# Altium schematic symbol library spacemonochrome-WR_TBL.SchLib: 1696 symbols (part 4 of 28)
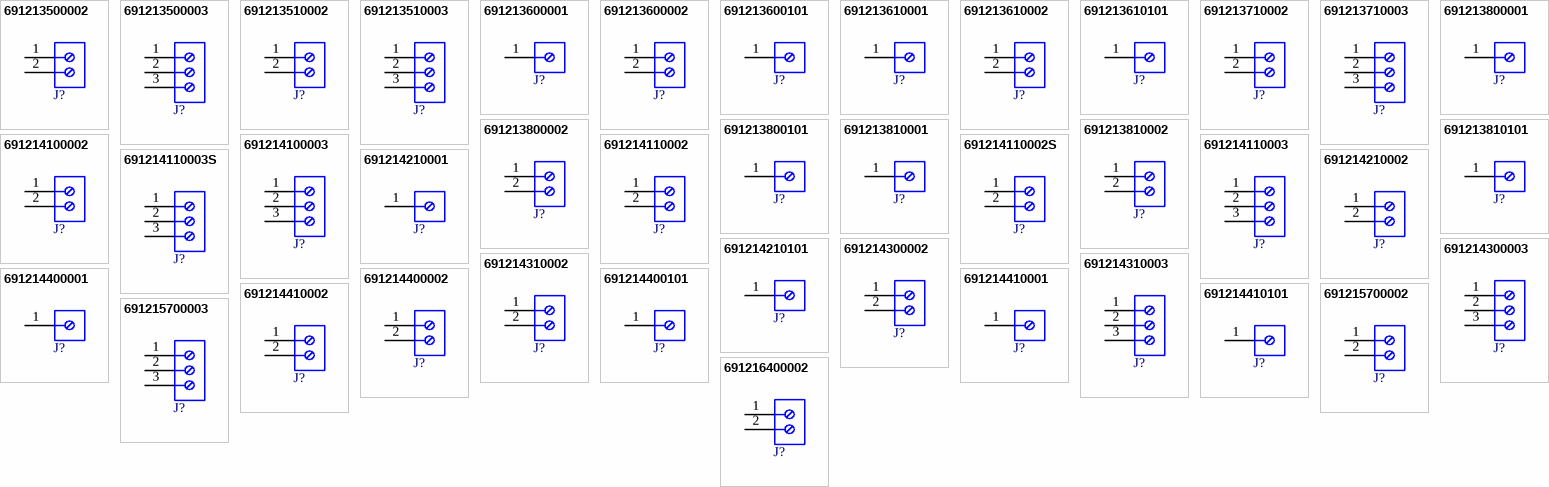
[diagram p45: symbols 691213500002 to 691216400002]

## 691214310003
designator J?  (value not drawn)
WR-TBL Series 2143 Horizontal Entry Modular, THT, pitch 3.81mm, 3p; Manufacturer: Wurth Elektronik; Modularity: Yes; Rated Current: 10A; Working Voltage: 300V; ComponentLink1Description: Website Link; ComponentLink1URL: https://www.we-online.com/redexpert/article/691214310003?ad; ComponentLink2Description: Datasheet Link; ComponentLink2URL: https://www.we-online.com/redexpert/spec/691214310003?ad; Manufacturer Part Number: 691214310003; Category: Terminal Blocks; Match Code: WR-TBL; Mount: Through Hole; Operating Temperature Max: 105°C; Operating Temperature Min: -40°C; Packaging: Box; Application: Rising Cage Clamp; Number of Pins: 3; Number of Rows: 1; Orientation: Horizontal; Pitch: 3.81mm
footprint 691214310003
pins: 1, 2, 3

## 691214400001
designator J?  (value not drawn)
WR-TBL Series 2144 Vertical Cable Entry, THT, pitch 7.62mm, 1p; Manufacturer: Wurth Elektronik; Modularity: Yes; Rated Current: 10A; Working Voltage: 300V; ComponentLink1Description: Website Link; ComponentLink1URL: https://www.we-online.com/redexpert/article/691214400001?ad; ComponentLink2Description: Datasheet Link; ComponentLink2URL: https://www.we-online.com/redexpert/spec/691214400001?ad; Manufacturer Part Number: 691214400001; Category: Terminal Blocks; Match Code: WR-TBL; Mount: Through Hole; Operating Temperature Max: 120°C; Operating Temperature Min: -30°C; Packaging: Box; Application: Rising Cage Clamp; Number of Pins: 1; Number of Rows: 1; Orientation: Vertical; Pitch: 7.62mm
footprint 691214400001
pins: 1

## 691214400002
designator J?  (value not drawn)
WR-TBL Series 2144 Vertical Cable Entry, THT, pitch 7.62mm, 2p; Manufacturer: Wurth Elektronik; Modularity: Yes; Rated Current: 10A; Working Voltage: 300V; ComponentLink1Description: Website Link; ComponentLink1URL: https://www.we-online.com/redexpert/article/691214400002?ad; ComponentLink2Description: Datasheet Link; ComponentLink2URL: https://www.we-online.com/redexpert/spec/691214400002?ad; Manufacturer Part Number: 691214400002; Category: Terminal Blocks; Match Code: WR-TBL; Mount: Through Hole; Operating Temperature Max: 120°C; Operating Temperature Min: -30°C; Packaging: Box; Application: Rising Cage Clamp; Number of Pins: 2; Number of Rows: 1; Orientation: Vertical; Pitch: 7.62mm
footprint 691214400002
pins: 1, 2

## 691214400101
designator J?  (value not drawn)
WR-TBL Series 2144 Vertical Cable Entry, THT, pitch 7.62mm, 1p; Manufacturer: Wurth Elektronik; Modularity: Yes; Rated Current: 10A; Working Voltage: 300V; ComponentLink1Description: Website Link; ComponentLink1URL: https://www.we-online.com/redexpert/article/691214400101?ad; ComponentLink2Description: Datasheet Link; ComponentLink2URL: https://www.we-online.com/redexpert/spec/691214400101?ad; Manufacturer Part Number: 691214400101; Category: Terminal Blocks; Match Code: WR-TBL; Mount: Through Hole; Operating Temperature Max: 120°C; Operating Temperature Min: -30°C; Packaging: Box; Application: Rising Cage Clamp; Number of Pins: 1; Number of Rows: 1; Orientation: Vertical; Pitch: 7.62mm
footprint 691214400101
pins: 1

## 691214410001
designator J?  (value not drawn)
WR-TBL Series 2144 Horizontal Entry, THT, pitch 7.62mm, 1p; Manufacturer: Wurth Elektronik; Modularity: Yes; Rated Current: 10A; Working Voltage: 300V; ComponentLink1Description: Website Link; ComponentLink1URL: https://www.we-online.com/redexpert/article/691214410001?ad; ComponentLink2Description: Datasheet Link; ComponentLink2URL: https://www.we-online.com/redexpert/spec/691214410001?ad; Manufacturer Part Number: 691214410001; Category: Terminal Blocks; Match Code: WR-TBL; Mount: Through Hole; Operating Temperature Max: 120°C; Operating Temperature Min: -30°C; Packaging: Box; Application: Rising Cage Clamp; Number of Pins: 1; Number of Rows: 1; Orientation: Horizontal; Pitch: 7.62mm
footprint 691214410001
pins: 1

## 691214410002
designator J?  (value not drawn)
WR-TBL Series 2144 Horizontal Entry, THT, pitch 7.62mm, 2p; Manufacturer: Wurth Elektronik; Modularity: Yes; Rated Current: 10A; Working Voltage: 300V; ComponentLink1Description: Website Link; ComponentLink1URL: https://www.we-online.com/redexpert/article/691214410002?ad; ComponentLink2Description: Datasheet Link; ComponentLink2URL: https://www.we-online.com/redexpert/spec/691214410002?ad; Manufacturer Part Number: 691214410002; Category: Terminal Blocks; Match Code: WR-TBL; Mount: Through Hole; Operating Temperature Max: 120°C; Operating Temperature Min: -30°C; Packaging: Box; Application: Rising Cage Clamp; Number of Pins: 2; Number of Rows: 1; Orientation: Horizontal; Pitch: 7.62mm
footprint 691214410002
pins: 1, 2

## 691214410101
designator J?  (value not drawn)
WR-TBL Series 2144 Horizontal Entry, THT, pitch 7.62mm, 1p; Manufacturer: Wurth Elektronik; Modularity: Yes; Rated Current: 10A; Working Voltage: 300V; ComponentLink1Description: Website Link; ComponentLink1URL: https://www.we-online.com/redexpert/article/691214410101?ad; ComponentLink2Description: Datasheet Link; ComponentLink2URL: https://www.we-online.com/redexpert/spec/691214410101?ad; Manufacturer Part Number: 691214410101; Category: Terminal Blocks; Match Code: WR-TBL; Mount: Through Hole; Operating Temperature Max: 120°C; Operating Temperature Min: -30°C; Packaging: Box; Application: Rising Cage Clamp; Number of Pins: 1; Number of Rows: 1; Orientation: Horizontal; Pitch: 7.62mm
footprint 691214410101
pins: 1

## 691215700002
designator J?  (value not drawn)
WR-TBL Series 2157 Vertical Entry Modular, THT, pitch 5mm, 2p; Manufacturer: Wurth Elektronik; Modularity: Yes; Rated Current: 20A; Working Voltage: 300V; ComponentLink1Description: Website Link; ComponentLink1URL: https://www.we-online.com/redexpert/article/691215700002?ad; ComponentLink2Description: Datasheet Link; ComponentLink2URL: https://www.we-online.com/redexpert/spec/691215700002?ad; Manufacturer Part Number: 691215700002; Category: Terminal Blocks; Match Code: WR-TBL; Mount: Through Hole; Operating Temperature Max: 105°C; Operating Temperature Min: -40°C; Packaging: Box; Application: Rising Cage Clamp; Number of Pins: 2; Number of Rows: 1; Orientation: Vertical; Pitch: 5mm
footprint 691215700002
pins: 1, 2

## 691215700003
designator J?  (value not drawn)
WR-TBL Series 2157 Vertical Entry Modular, THT, pitch 5mm, 3p; Manufacturer: Wurth Elektronik; Modularity: Yes; Rated Current: 20A; Working Voltage: 300V; ComponentLink1Description: Website Link; ComponentLink1URL: https://www.we-online.com/redexpert/article/691215700003?ad; ComponentLink2Description: Datasheet Link; ComponentLink2URL: https://www.we-online.com/redexpert/spec/691215700003?ad; Manufacturer Part Number: 691215700003; Category: Terminal Blocks; Match Code: WR-TBL; Mount: Through Hole; Operating Temperature Max: 105°C; Operating Temperature Min: -40°C; Packaging: Box; Application: Rising Cage Clamp; Number of Pins: 3; Number of Rows: 1; Orientation: Vertical; Pitch: 5mm
footprint 691215700003
pins: 1, 2, 3

## 691216400002
designator J?  (value not drawn)
WR-TBL Series 2164 Vertical Entry, THT, pitch 7.62mm, 2p; Manufacturer: Wurth Elektronik; Modularity: Yes; Rated Current: 14A; Working Voltage: 300V; ComponentLink1Description: Website Link; ComponentLink1URL: https://www.we-online.com/redexpert/article/691216400002?ad; ComponentLink2Description: Datasheet Link; ComponentLink2URL: https://www.we-online.com/redexpert/spec/691216400002?ad; Manufacturer Part Number: 691216400002; Category: Terminal Blocks; Match Code: WR-TBL; Mount: Through Hole; Operating Temperature Max: 120°C; Operating Temperature Min: -30°C; Packaging: Box; Application: Rising Cage Clamp; Number of Pins: 2; Number of Rows: 1; Orientation: Vertical; Pitch: 7.62mm
footprint 691216400002
pins: 1, 2

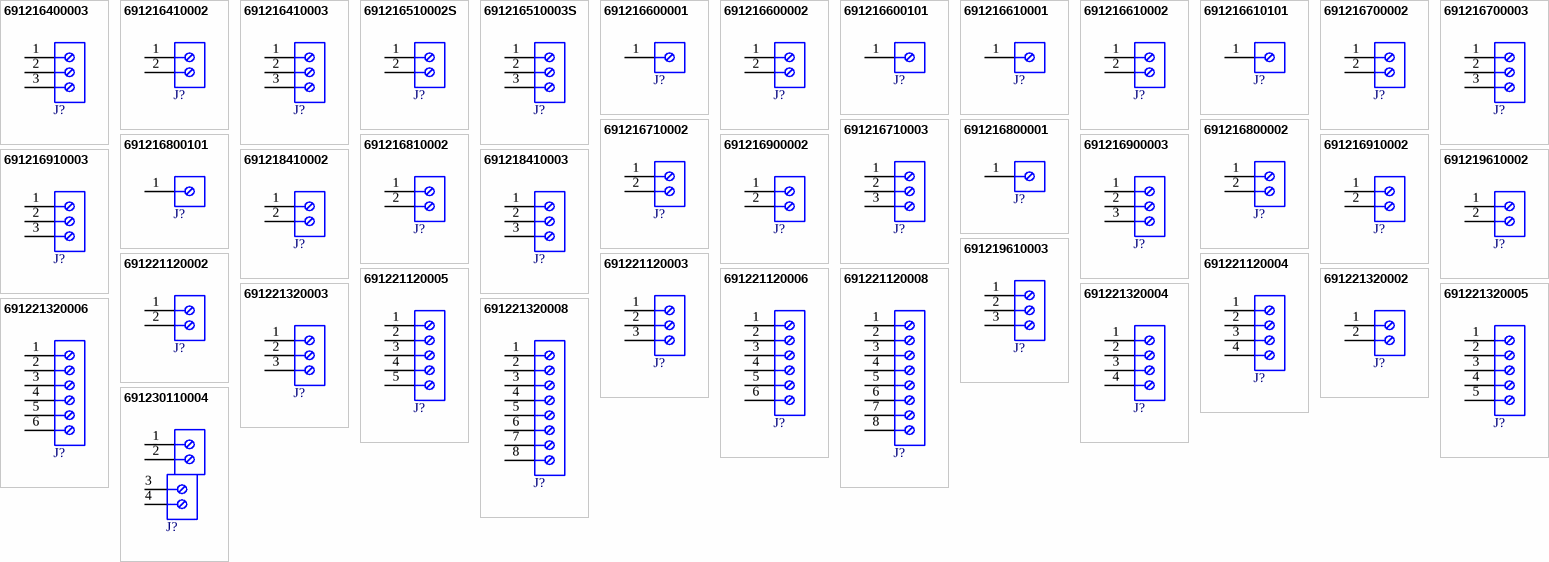
[diagram p5: symbols 691216400003 to 691230110004]

## 691216400003
designator J?  (value not drawn)
WR-TBL Series 2164 Vertical Entry, THT, pitch 7.62mm, 3p; Manufacturer: Wurth Elektronik; Modularity: Yes; Rated Current: 14A; Working Voltage: 300V; ComponentLink1Description: Website Link; ComponentLink1URL: https://www.we-online.com/redexpert/article/691216400003?ad; ComponentLink2Description: Datasheet Link; ComponentLink2URL: https://www.we-online.com/redexpert/spec/691216400003?ad; Manufacturer Part Number: 691216400003; Category: Terminal Blocks; Match Code: WR-TBL; Mount: Through Hole; Operating Temperature Max: 120°C; Operating Temperature Min: -30°C; Packaging: Box; Application: Rising Cage Clamp; Number of Pins: 3; Number of Rows: 1; Orientation: Vertical; Pitch: 7.62mm
footprint 691216400003
pins: 1, 2, 3

## 691216410002
designator J?  (value not drawn)
WR-TBL Series 2164 Horizontal Entry, THT, pitch 7.62mm, 2p; Manufacturer: Wurth Elektronik; Modularity: Yes; Rated Current: 14A; Working Voltage: 300V; ComponentLink1Description: Website Link; ComponentLink1URL: https://www.we-online.com/redexpert/article/691216410002?ad; ComponentLink2Description: Datasheet Link; ComponentLink2URL: https://www.we-online.com/redexpert/spec/691216410002?ad; Manufacturer Part Number: 691216410002; Category: Terminal Blocks; Match Code: WR-TBL; Mount: Through Hole; Operating Temperature Max: 120°C; Operating Temperature Min: -30°C; Packaging: Box; Application: Rising Cage Clamp; Number of Pins: 2; Number of Rows: 1; Orientation: Horizontal; Pitch: 7.62mm
footprint 691216410002
pins: 1, 2

## 691216410003
designator J?  (value not drawn)
WR-TBL Series 2164 Horizontal Entry, THT, pitch 7.62mm, 3p; Manufacturer: Wurth Elektronik; Modularity: Yes; Rated Current: 14A; Working Voltage: 300V; ComponentLink1Description: Website Link; ComponentLink1URL: https://www.we-online.com/redexpert/article/691216410003?ad; ComponentLink2Description: Datasheet Link; ComponentLink2URL: https://www.we-online.com/redexpert/spec/691216410003?ad; Manufacturer Part Number: 691216410003; Category: Terminal Blocks; Match Code: WR-TBL; Mount: Through Hole; Operating Temperature Max: 120°C; Operating Temperature Min: -30°C; Packaging: Box; Application: Rising Cage Clamp; Number of Pins: 3; Number of Rows: 1; Orientation: Horizontal; Pitch: 7.62mm
footprint 691216410003
pins: 1, 2, 3

## 691216510002S
designator J?  (value not drawn)
WR-TBL Series 2165S Horizontal Entry Modular, THT, pitch 5.08mm, 2p; Manufacturer: Wurth Elektronik; Modularity: Yes; Rated Current: 14A; Working Voltage: 300V; ComponentLink1Description: Website Link; ComponentLink1URL: https://www.we-online.com/redexpert/article/691216510002S?ad; ComponentLink2Description: Datasheet Link; ComponentLink2URL: https://www.we-online.com/redexpert/spec/691216510002S?ad; Manufacturer Part Number: 691216510002S; Category: Terminal Blocks; Match Code: WR-TBL; Mount: Through Hole; Operating Temperature Max: 120°C; Operating Temperature Min: -30°C; Packaging: Box; Application: Rising Cage Clamp; Number of Pins: 2; Number of Rows: 1; Orientation: Horizontal; Pitch: 5.08mm
footprint 691216510002S
pins: 1, 2

## 691216510003S
designator J?  (value not drawn)
WR-TBL Series 2165S Horizontal Entry Modular, THT, pitch 5.08mm, 3p; Manufacturer: Wurth Elektronik; Modularity: Yes; Rated Current: 14A; Working Voltage: 300V; ComponentLink1Description: Website Link; ComponentLink1URL: https://www.we-online.com/redexpert/article/691216510003S?ad; ComponentLink2Description: Datasheet Link; ComponentLink2URL: https://www.we-online.com/redexpert/spec/691216510003S?ad; Manufacturer Part Number: 691216510003S; Category: Terminal Blocks; Match Code: WR-TBL; Mount: Through Hole; Operating Temperature Max: 120°C; Operating Temperature Min: -30°C; Packaging: Box; Application: Rising Cage Clamp; Number of Pins: 3; Number of Rows: 1; Orientation: Horizontal; Pitch: 5.08mm
footprint 691216510003S
pins: 1, 2, 3

## 691216600001
designator J?  (value not drawn)
WR-TBL Series 2166 Vertical Entry, THT, pitch 10.16mm, 1p; Manufacturer: Wurth Elektronik; Modularity: Yes; Rated Current: 14A; Working Voltage: 300V; ComponentLink1Description: Website Link; ComponentLink1URL: https://www.we-online.com/redexpert/article/691216600001?ad; ComponentLink2Description: Datasheet Link; ComponentLink2URL: https://www.we-online.com/redexpert/spec/691216600001?ad; Manufacturer Part Number: 691216600001; Category: Terminal Blocks; Match Code: WR-TBL; Mount: Through Hole; Operating Temperature Max: 120°C; Operating Temperature Min: -30°C; Packaging: Box; Application: Rising Cage Clamp; Number of Pins: 1; Number of Rows: 1; Orientation: Vertical; Pitch: 10.16mm
footprint 691216600001
pins: 1

## 691216600002
designator J?  (value not drawn)
WR-TBL Series 2166 Vertical Entry, THT, pitch 10.16mm, 2p; Manufacturer: Wurth Elektronik; Modularity: Yes; Rated Current: 14A; Working Voltage: 300V; ComponentLink1Description: Website Link; ComponentLink1URL: https://www.we-online.com/redexpert/article/691216600002?ad; ComponentLink2Description: Datasheet Link; ComponentLink2URL: https://www.we-online.com/redexpert/spec/691216600002?ad; Manufacturer Part Number: 691216600002; Category: Terminal Blocks; Match Code: WR-TBL; Mount: Through Hole; Operating Temperature Max: 120°C; Operating Temperature Min: -30°C; Packaging: Box; Application: Rising Cage Clamp; Number of Pins: 2; Number of Rows: 1; Orientation: Vertical; Pitch: 10.16mm
footprint 691216600002
pins: 1, 2

## 691216600101
designator J?  (value not drawn)
WR-TBL Series 2166 Vertical Entry, THT, pitch 10.16mm, 1p; Manufacturer: Wurth Elektronik; Modularity: Yes; Rated Current: 14A; Working Voltage: 300V; ComponentLink1Description: Website Link; ComponentLink1URL: https://www.we-online.com/redexpert/article/691216600101?ad; ComponentLink2Description: Datasheet Link; ComponentLink2URL: https://www.we-online.com/redexpert/spec/691216600101?ad; Manufacturer Part Number: 691216600101; Category: Terminal Blocks; Match Code: WR-TBL; Mount: Through Hole; Operating Temperature Max: 120°C; Operating Temperature Min: -30°C; Packaging: Box; Application: Rising Cage Clamp; Number of Pins: 1; Number of Rows: 1; Orientation: Vertical; Pitch: 10.16mm
footprint 691216600101
pins: 1

## 691216610001
designator J?  (value not drawn)
WR-TBL Series 2166 Horizontal Entry, THT, pitch 10.16mm, 1p; Manufacturer: Wurth Elektronik; Modularity: Yes; Rated Current: 14A; Working Voltage: 300V; ComponentLink1Description: Website Link; ComponentLink1URL: https://www.we-online.com/redexpert/article/691216610001?ad; ComponentLink2Description: Datasheet Link; ComponentLink2URL: https://www.we-online.com/redexpert/spec/691216610001?ad; Manufacturer Part Number: 691216610001; Category: Terminal Blocks; Match Code: WR-TBL; Mount: Through Hole; Operating Temperature Max: 120°C; Operating Temperature Min: -30°C; Packaging: Box; Application: Rising Cage Clamp; Number of Pins: 1; Number of Rows: 1; Orientation: Horizontal; Pitch: 10.16mm
footprint 691216610001
pins: 1

## 691216610002
designator J?  (value not drawn)
WR-TBL Series 2166 Horizontal Entry, THT, pitch 10.16mm, 2p; Manufacturer: Wurth Elektronik; Modularity: Yes; Rated Current: 14A; Working Voltage: 300V; ComponentLink1Description: Website Link; ComponentLink1URL: https://www.we-online.com/redexpert/article/691216610002?ad; ComponentLink2Description: Datasheet Link; ComponentLink2URL: https://www.we-online.com/redexpert/spec/691216610002?ad; Manufacturer Part Number: 691216610002; Category: Terminal Blocks; Match Code: WR-TBL; Mount: Through Hole; Operating Temperature Max: 120°C; Operating Temperature Min: -30°C; Packaging: Box; Application: Rising Cage Clamp; Number of Pins: 2; Number of Rows: 1; Orientation: Horizontal; Pitch: 10.16mm
footprint 691216610002
pins: 1, 2

## 691216610101
designator J?  (value not drawn)
WR-TBL Series 2166 Horizontal Entry, THT, pitch 10.16mm, 1p; Manufacturer: Wurth Elektronik; Modularity: Yes; Rated Current: 14A; Working Voltage: 300V; ComponentLink1Description: Website Link; ComponentLink1URL: https://www.we-online.com/redexpert/article/691216610101?ad; ComponentLink2Description: Datasheet Link; ComponentLink2URL: https://www.we-online.com/redexpert/spec/691216610101?ad; Manufacturer Part Number: 691216610101; Category: Terminal Blocks; Match Code: WR-TBL; Mount: Through Hole; Operating Temperature Max: 120°C; Operating Temperature Min: -30°C; Packaging: Box; Application: Rising Cage Clamp; Number of Pins: 1; Number of Rows: 1; Orientation: Horizontal; Pitch: 10.16mm
footprint 691216610101
pins: 1

## 691216700002
designator J?  (value not drawn)
WR-TBL Series 2167 Vertical Entry Modular, THT, pitch 5mm, 2p; Manufacturer: Wurth Elektronik; Modularity: Yes; Rated Current: 14A; Working Voltage: 300V; ComponentLink1Description: Website Link; ComponentLink1URL: https://www.we-online.com/redexpert/article/691216700002?ad; ComponentLink2Description: Datasheet Link; ComponentLink2URL: https://www.we-online.com/redexpert/spec/691216700002?ad; Manufacturer Part Number: 691216700002; Category: Terminal Blocks; Match Code: WR-TBL; Mount: Through Hole; Operating Temperature Max: 120°C; Operating Temperature Min: -30°C; Packaging: Box; Application: Rising Cage Clamp; Number of Pins: 2; Number of Rows: 1; Orientation: Vertical; Pitch: 5mm
footprint 691216700002
pins: 1, 2

## 691216700003
designator J?  (value not drawn)
WR-TBL Series 2167 Vertical Entry Modular, THT, pitch 5mm, 3p; Manufacturer: Wurth Elektronik; Modularity: Yes; Rated Current: 14A; Working Voltage: 300V; ComponentLink1Description: Website Link; ComponentLink1URL: https://www.we-online.com/redexpert/article/691216700003?ad; ComponentLink2Description: Datasheet Link; ComponentLink2URL: https://www.we-online.com/redexpert/spec/691216700003?ad; Manufacturer Part Number: 691216700003; Category: Terminal Blocks; Match Code: WR-TBL; Mount: Through Hole; Operating Temperature Max: 120°C; Operating Temperature Min: -30°C; Packaging: Box; Application: Rising Cage Clamp; Number of Pins: 3; Number of Rows: 1; Orientation: Vertical; Pitch: 5mm
footprint 691216700003
pins: 1, 2, 3

## 691216710002
designator J?  (value not drawn)
WR-TBL Series 2167 Horizontal Entry Modular, THT, pitch 5mm, 2p; Manufacturer: Wurth Elektronik; Modularity: Yes; Rated Current: 14A; Working Voltage: 300V; ComponentLink1Description: Website Link; ComponentLink1URL: https://www.we-online.com/redexpert/article/691216710002?ad; ComponentLink2Description: Datasheet Link; ComponentLink2URL: https://www.we-online.com/redexpert/spec/691216710002?ad; Manufacturer Part Number: 691216710002; Category: Terminal Blocks; Match Code: WR-TBL; Mount: Through Hole; Operating Temperature Max: 120°C; Operating Temperature Min: -30°C; Packaging: Box; Application: Rising Cage Clamp; Number of Pins: 2; Number of Rows: 1; Orientation: Horizontal; Pitch: 5mm
footprint 691216710002
pins: 1, 2

## 691216710003
designator J?  (value not drawn)
WR-TBL Series 2167 Horizontal Entry Modular, THT, pitch 5mm, 3p; Manufacturer: Wurth Elektronik; Modularity: Yes; Rated Current: 14A; Working Voltage: 300V; ComponentLink1Description: Website Link; ComponentLink1URL: https://www.we-online.com/redexpert/article/691216710003?ad; ComponentLink2Description: Datasheet Link; ComponentLink2URL: https://www.we-online.com/redexpert/spec/691216710003?ad; Manufacturer Part Number: 691216710003; Category: Terminal Blocks; Match Code: WR-TBL; Mount: Through Hole; Operating Temperature Max: 120°C; Operating Temperature Min: -30°C; Packaging: Box; Application: Rising Cage Clamp; Number of Pins: 3; Number of Rows: 1; Orientation: Horizontal; Pitch: 5mm
footprint 691216710003
pins: 1, 2, 3

## 691216800001
designator J?  (value not drawn)
WR-TBL Series 2168 Vertical Entry, THT, pitch 10mm, 1p; Manufacturer: Wurth Elektronik; Modularity: Yes; Rated Current: 14A; Working Voltage: 300V; ComponentLink1Description: Website Link; ComponentLink1URL: https://www.we-online.com/redexpert/article/691216800001?ad; ComponentLink2Description: Datasheet Link; ComponentLink2URL: https://www.we-online.com/redexpert/spec/691216800001?ad; Manufacturer Part Number: 691216800001; Category: Terminal Blocks; Match Code: WR-TBL; Mount: Through Hole; Operating Temperature Max: 120°C; Operating Temperature Min: -30°C; Packaging: Box; Application: Rising Cage Clamp; Number of Pins: 1; Number of Rows: 1; Orientation: Vertical; Pitch: 10mm
footprint 691216800001
pins: 1

## 691216800002
designator J?  (value not drawn)
WR-TBL Series 2168 Vertical Entry, THT, pitch 10mm, 2p; Manufacturer: Wurth Elektronik; Modularity: Yes; Rated Current: 14A; Working Voltage: 300V; ComponentLink1Description: Website Link; ComponentLink1URL: https://www.we-online.com/redexpert/article/691216800002?ad; ComponentLink2Description: Datasheet Link; ComponentLink2URL: https://www.we-online.com/redexpert/spec/691216800002?ad; Manufacturer Part Number: 691216800002; Category: Terminal Blocks; Match Code: WR-TBL; Mount: Through Hole; Operating Temperature Max: 120°C; Operating Temperature Min: -30°C; Packaging: Box; Application: Rising Cage Clamp; Number of Pins: 2; Number of Rows: 1; Orientation: Vertical; Pitch: 10mm
footprint 691216800002
pins: 1, 2

## 691216800101
designator J?  (value not drawn)
WR-TBL Series 2168 Vertical Entry, THT, pitch 10mm, 1p; Manufacturer: Wurth Elektronik; Modularity: Yes; Rated Current: 14A; Working Voltage: 300V; ComponentLink1Description: Website Link; ComponentLink1URL: https://www.we-online.com/redexpert/article/691216800101?ad; ComponentLink2Description: Datasheet Link; ComponentLink2URL: https://www.we-online.com/redexpert/spec/691216800101?ad; Manufacturer Part Number: 691216800101; Category: Terminal Blocks; Match Code: WR-TBL; Mount: Through Hole; Operating Temperature Max: 120°C; Operating Temperature Min: -30°C; Packaging: Box; Application: Rising Cage Clamp; Number of Pins: 1; Number of Rows: 1; Orientation: Vertical; Pitch: 10mm
footprint 691216800101
pins: 1

## 691216810002
designator J?  (value not drawn)
WR-TBL Series 2168 Horizontal Entry Modular, THT, pitch 10mm, 2p; Manufacturer: Wurth Elektronik; Modularity: Yes; Rated Current: 14A; Working Voltage: 300V; ComponentLink1Description: Website Link; ComponentLink1URL: https://www.we-online.com/redexpert/article/691216810002?ad; ComponentLink2Description: Datasheet Link; ComponentLink2URL: https://www.we-online.com/redexpert/spec/691216810002?ad; Manufacturer Part Number: 691216810002; Category: Terminal Blocks; Match Code: WR-TBL; Mount: Through Hole; Operating Temperature Max: 120°C; Operating Temperature Min: -30°C; Packaging: Box; Application: Rising Cage Clamp; Number of Pins: 2; Number of Rows: 1; Orientation: Horizontal; Pitch: 10mm
footprint 691216810002
pins: 1, 2

## 691216900002
designator J?  (value not drawn)
WR-TBL Series 2169 Vertical Entry, THT, pitch 7.5mm, 2p; Manufacturer: Wurth Elektronik; Modularity: Yes; Rated Current: 14A; Working Voltage: 300V; ComponentLink1Description: Website Link; ComponentLink1URL: https://www.we-online.com/redexpert/article/691216900002?ad; ComponentLink2Description: Datasheet Link; ComponentLink2URL: https://www.we-online.com/redexpert/spec/691216900002?ad; Manufacturer Part Number: 691216900002; Category: Terminal Blocks; Match Code: WR-TBL; Mount: Through Hole; Operating Temperature Max: 120°C; Operating Temperature Min: -30°C; Packaging: Box; Application: Rising Cage Clamp; Number of Pins: 2; Number of Rows: 1; Orientation: Vertical; Pitch: 7.5mm
footprint 691216900002
pins: 1, 2

## 691216900003
designator J?  (value not drawn)
WR-TBL Series 2169 Vertical Entry, THT, pitch 7.5mm, 3p; Manufacturer: Wurth Elektronik; Modularity: Yes; Rated Current: 14A; Working Voltage: 300V; ComponentLink1Description: Website Link; ComponentLink1URL: https://www.we-online.com/redexpert/article/691216900003?ad; ComponentLink2Description: Datasheet Link; ComponentLink2URL: https://www.we-online.com/redexpert/spec/691216900003?ad; Manufacturer Part Number: 691216900003; Category: Terminal Blocks; Match Code: WR-TBL; Mount: Through Hole; Operating Temperature Max: 120°C; Operating Temperature Min: -30°C; Packaging: Box; Application: Rising Cage Clamp; Number of Pins: 3; Number of Rows: 1; Orientation: Vertical; Pitch: 7.5mm
footprint 691216900003
pins: 1, 2, 3

## 691216910002
designator J?  (value not drawn)
WR-TBL Series 2169 Horizontal Entry Modular, THT, pitch 7.5mm, 2p; Manufacturer: Wurth Elektronik; Modularity: Yes; Rated Current: 14A; Working Voltage: 300V; ComponentLink1Description: Website Link; ComponentLink1URL: https://www.we-online.com/redexpert/article/691216910002?ad; ComponentLink2Description: Datasheet Link; ComponentLink2URL: https://www.we-online.com/redexpert/spec/691216910002?ad; Manufacturer Part Number: 691216910002; Category: Terminal Blocks; Match Code: WR-TBL; Mount: Through Hole; Operating Temperature Max: 120°C; Operating Temperature Min: -30°C; Packaging: Box; Application: Rising Cage Clamp; Number of Pins: 2; Number of Rows: 1; Orientation: Horizontal; Pitch: 7.5mm
footprint 691216910002
pins: 1, 2

## 691216910003
designator J?  (value not drawn)
WR-TBL Series 2169 Horizontal Entry Modular, THT, pitch 7.5mm, 3p; Manufacturer: Wurth Elektronik; Modularity: Yes; Rated Current: 14A; Working Voltage: 300V; ComponentLink1Description: Website Link; ComponentLink1URL: https://www.we-online.com/redexpert/article/691216910003?ad; ComponentLink2Description: Datasheet Link; ComponentLink2URL: https://www.we-online.com/redexpert/spec/691216910003?ad; Manufacturer Part Number: 691216910003; Category: Terminal Blocks; Match Code: WR-TBL; Mount: Through Hole; Operating Temperature Max: 120°C; Operating Temperature Min: -30°C; Packaging: Box; Application: Rising Cage Clamp; Number of Pins: 3; Number of Rows: 1; Orientation: Horizontal; Pitch: 7.5mm
footprint 691216910003
pins: 1, 2, 3

## 691218410002
designator J?  (value not drawn)
WR-TBL Series 2184 Horizontal Entry Modular, THT, pitch 7.62mm, 2p; Manufacturer: Wurth Elektronik; Modularity: Yes; Rated Current: 30A; Working Voltage: 300V; ComponentLink1Description: Website Link; ComponentLink1URL: https://www.we-online.com/redexpert/article/691218410002?ad; ComponentLink2Description: Datasheet Link; ComponentLink2URL: https://www.we-online.com/redexpert/spec/691218410002?ad; Manufacturer Part Number: 691218410002; Category: Terminal Blocks; Match Code: WR-TBL; Mount: Through Hole; Operating Temperature Max: 105°C; Operating Temperature Min: -40°C; Packaging: Box; Application: Rising Cage Clamp; Number of Pins: 2; Number of Rows: 1; Orientation: Horizontal; Pitch: 7.62mm
footprint 691218410002
pins: 1, 2

## 691218410003
designator J?  (value not drawn)
WR-TBL Series 2184 Horizontal Entry Modular, THT, pitch 7.62mm, 3p; Manufacturer: Wurth Elektronik; Modularity: Yes; Rated Current: 30A; Working Voltage: 300V; ComponentLink1Description: Website Link; ComponentLink1URL: https://www.we-online.com/redexpert/article/691218410003?ad; ComponentLink2Description: Datasheet Link; ComponentLink2URL: https://www.we-online.com/redexpert/spec/691218410003?ad; Manufacturer Part Number: 691218410003; Category: Terminal Blocks; Match Code: WR-TBL; Mount: Through Hole; Operating Temperature Max: 105°C; Operating Temperature Min: -40°C; Packaging: Box; Application: Rising Cage Clamp; Number of Pins: 3; Number of Rows: 1; Orientation: Horizontal; Pitch: 7.62mm
footprint 691218410003
pins: 1, 2, 3

## 691219610002
designator J?  (value not drawn)
WR-TBL Series 2196 Horizontal Entry Modular, THT, pitch 10.16mm, 2p; Manufacturer: Wurth Elektronik; Modularity: Yes; Rated Current: 57A; Working Voltage: 300V; ComponentLink1Description: Website Link; ComponentLink1URL: https://www.we-online.com/redexpert/article/691219610002?ad; ComponentLink2Description: Datasheet Link; ComponentLink2URL: https://www.we-online.com/redexpert/spec/691219610002?ad; Manufacturer Part Number: 691219610002; Category: Terminal Blocks; Match Code: WR-TBL; Mount: Through Hole; Operating Temperature Max: 105°C; Operating Temperature Min: -40°C; Packaging: Box; Application: Rising Cage Clamp; Number of Pins: 2; Number of Rows: 1; Orientation: Horizontal; Pitch: 10.16mm
footprint 691219610002
pins: 1, 2

## 691219610003
designator J?  (value not drawn)
WR-TBL Series 2196 Horizontal Entry Modular, THT, pitch 10.16mm, 3p; Manufacturer: Wurth Elektronik; Modularity: Yes; Rated Current: 57A; Working Voltage: 300V; ComponentLink1Description: Website Link; ComponentLink1URL: https://www.we-online.com/redexpert/article/691219610003?ad; ComponentLink2Description: Datasheet Link; ComponentLink2URL: https://www.we-online.com/redexpert/spec/691219610003?ad; Manufacturer Part Number: 691219610003; Category: Terminal Blocks; Match Code: WR-TBL; Mount: Through Hole; Operating Temperature Max: 105°C; Operating Temperature Min: -40°C; Packaging: Box; Application: Rising Cage Clamp; Number of Pins: 3; Number of Rows: 1; Orientation: Horizontal; Pitch: 10.16mm
footprint 691219610003
pins: 1, 2, 3

## 691221120002
designator J?  (value not drawn)
WR-TBL Series 2211 55° Entry Modular, THT, pitch 3.5mm, 2p; Manufacturer: Wurth Elektronik; Modularity: Yes; Rated Current: 10A; Working Voltage: 300V; ComponentLink1Description: Website Link; ComponentLink1URL: https://www.we-online.com/redexpert/article/691221120002?ad; ComponentLink2Description: Datasheet Link; ComponentLink2URL: https://www.we-online.com/redexpert/spec/691221120002?ad; Manufacturer Part Number: 691221120002; Category: Terminal Blocks; Match Code: WR-TBL; Mount: Through Hole; Operating Temperature Max: 105°C; Operating Temperature Min: -40°C; Packaging: Box; Application: Rising Cage Clamp; Number of Pins: 2; Number of Rows: 1; Orientation: 55°; Pitch: 3.5mm
footprint 691221120002
pins: 1, 2

## 691221120003
designator J?  (value not drawn)
WR-TBL Series 2211 55° Entry Modular, THT, pitch 3.5mm, 3p; Manufacturer: Wurth Elektronik; Modularity: Yes; Rated Current: 10A; Working Voltage: 300V; ComponentLink1Description: Website Link; ComponentLink1URL: https://www.we-online.com/redexpert/article/691221120003?ad; ComponentLink2Description: Datasheet Link; ComponentLink2URL: https://www.we-online.com/redexpert/spec/691221120003?ad; Manufacturer Part Number: 691221120003; Category: Terminal Blocks; Match Code: WR-TBL; Mount: Through Hole; Operating Temperature Max: 105°C; Operating Temperature Min: -40°C; Packaging: Box; Application: Rising Cage Clamp; Number of Pins: 3; Number of Rows: 1; Orientation: 55°; Pitch: 3.5mm
footprint 691221120003
pins: 1, 2, 3

## 691221120004
designator J?  (value not drawn)
WR-TBL Series 2211 55° Entry Modular, THT, pitch 3.5mm, 4p; Manufacturer: Wurth Elektronik; Modularity: Yes; Rated Current: 10A; Working Voltage: 300V; ComponentLink1Description: Website Link; ComponentLink1URL: https://www.we-online.com/redexpert/article/691221120004?ad; ComponentLink2Description: Datasheet Link; ComponentLink2URL: https://www.we-online.com/redexpert/spec/691221120004?ad; Manufacturer Part Number: 691221120004; Category: Terminal Blocks; Match Code: WR-TBL; Mount: Through Hole; Operating Temperature Max: 105°C; Operating Temperature Min: -40°C; Packaging: Box; Application: Rising Cage Clamp; Number of Pins: 4; Number of Rows: 1; Orientation: 55°; Pitch: 3.5mm
footprint 691221120004
pins: 1, 2, 3, 4

## 691221120005
designator J?  (value not drawn)
WR-TBL Series 2211 55° Entry Modular, THT, pitch 3.5mm, 5p; Manufacturer: Wurth Elektronik; Modularity: Yes; Rated Current: 10A; Working Voltage: 300V; ComponentLink1Description: Website Link; ComponentLink1URL: https://www.we-online.com/redexpert/article/691221120005?ad; ComponentLink2Description: Datasheet Link; ComponentLink2URL: https://www.we-online.com/redexpert/spec/691221120005?ad; Manufacturer Part Number: 691221120005; Category: Terminal Blocks; Match Code: WR-TBL; Mount: Through Hole; Operating Temperature Max: 105°C; Operating Temperature Min: -40°C; Packaging: Box; Application: Rising Cage Clamp; Number of Pins: 5; Number of Rows: 1; Orientation: 55°; Pitch: 3.5mm
footprint 691221120005
pins: 1, 2, 3, 4, 5

## 691221120006
designator J?  (value not drawn)
WR-TBL Series 2211 55° Entry Modular, THT, pitch 3.5mm, 6p; Manufacturer: Wurth Elektronik; Modularity: Yes; Rated Current: 10A; Working Voltage: 300V; ComponentLink1Description: Website Link; ComponentLink1URL: https://www.we-online.com/redexpert/article/691221120006?ad; ComponentLink2Description: Datasheet Link; ComponentLink2URL: https://www.we-online.com/redexpert/spec/691221120006?ad; Manufacturer Part Number: 691221120006; Category: Terminal Blocks; Match Code: WR-TBL; Mount: Through Hole; Operating Temperature Max: 105°C; Operating Temperature Min: -40°C; Packaging: Box; Application: Rising Cage Clamp; Number of Pins: 6; Number of Rows: 1; Orientation: 55°; Pitch: 3.5mm
footprint 691221120006
pins: 1, 2, 3, 4, 5, 6

## 691221120008
designator J?  (value not drawn)
WR-TBL Series 2211 55° Entry Modular, THT, pitch 3.5mm, 8p; Manufacturer: Wurth Elektronik; Modularity: Yes; Rated Current: 10A; Working Voltage: 300V; ComponentLink1Description: Website Link; ComponentLink1URL: https://www.we-online.com/redexpert/article/691221120008?ad; ComponentLink2Description: Datasheet Link; ComponentLink2URL: https://www.we-online.com/redexpert/spec/691221120008?ad; Manufacturer Part Number: 691221120008; Category: Terminal Blocks; Match Code: WR-TBL; Mount: Through Hole; Operating Temperature Max: 105°C; Operating Temperature Min: -40°C; Packaging: Box; Application: Rising Cage Clamp; Number of Pins: 8; Number of Rows: 1; Orientation: 55°; Pitch: 3.5mm
footprint 691221120008
pins: 1, 2, 3, 4, 5, 6, 7, 8

## 691221320002
designator J?  (value not drawn)
WR-TBL Series 2213 55° Entry Modular, THT, pitch 3.81mm, 2p; Manufacturer: Wurth Elektronik; Modularity: Yes; Rated Current: 10A; Working Voltage: 300V; ComponentLink1Description: Website Link; ComponentLink1URL: https://www.we-online.com/redexpert/article/691221320002?ad; ComponentLink2Description: Datasheet Link; ComponentLink2URL: https://www.we-online.com/redexpert/spec/691221320002?ad; Manufacturer Part Number: 691221320002; Category: Terminal Blocks; Match Code: WR-TBL; Mount: Through Hole; Operating Temperature Max: 105°C; Operating Temperature Min: -40°C; Packaging: Box; Application: Rising Cage Clamp; Number of Pins: 2; Number of Rows: 1; Orientation: 55°; Pitch: 3.81mm
footprint 691221320002
pins: 1, 2

## 691221320003
designator J?  (value not drawn)
WR-TBL Series 2213 55° Entry Modular, THT, pitch 3.81mm, 3p; Manufacturer: Wurth Elektronik; Modularity: Yes; Rated Current: 10A; Working Voltage: 300V; ComponentLink1Description: Website Link; ComponentLink1URL: https://www.we-online.com/redexpert/article/691221320003?ad; ComponentLink2Description: Datasheet Link; ComponentLink2URL: https://www.we-online.com/redexpert/spec/691221320003?ad; Manufacturer Part Number: 691221320003; Category: Terminal Blocks; Match Code: WR-TBL; Mount: Through Hole; Operating Temperature Max: 105°C; Operating Temperature Min: -40°C; Packaging: Box; Application: Rising Cage Clamp; Number of Pins: 3; Number of Rows: 1; Orientation: 55°; Pitch: 3.81mm
footprint 691221320003
pins: 1, 2, 3

## 691221320004
designator J?  (value not drawn)
WR-TBL Series 2213 55° Entry Modular, THT, pitch 3.81mm, 4p; Manufacturer: Wurth Elektronik; Modularity: Yes; Rated Current: 10A; Working Voltage: 300V; ComponentLink1Description: Website Link; ComponentLink1URL: https://www.we-online.com/redexpert/article/691221320004?ad; ComponentLink2Description: Datasheet Link; ComponentLink2URL: https://www.we-online.com/redexpert/spec/691221320004?ad; Manufacturer Part Number: 691221320004; Category: Terminal Blocks; Match Code: WR-TBL; Mount: Through Hole; Operating Temperature Max: 105°C; Operating Temperature Min: -40°C; Packaging: Box; Application: Rising Cage Clamp; Number of Pins: 4; Number of Rows: 1; Orientation: 55°; Pitch: 3.81mm
footprint 691221320004
pins: 1, 2, 3, 4

## 691221320005
designator J?  (value not drawn)
WR-TBL Series 2213 55° Entry Modular, THT, pitch 3.81mm, 5p; Manufacturer: Wurth Elektronik; Modularity: Yes; Rated Current: 10A; Working Voltage: 300V; ComponentLink1Description: Website Link; ComponentLink1URL: https://www.we-online.com/redexpert/article/691221320005?ad; ComponentLink2Description: Datasheet Link; ComponentLink2URL: https://www.we-online.com/redexpert/spec/691221320005?ad; Manufacturer Part Number: 691221320005; Category: Terminal Blocks; Match Code: WR-TBL; Mount: Through Hole; Operating Temperature Max: 105°C; Operating Temperature Min: -40°C; Packaging: Box; Application: Rising Cage Clamp; Number of Pins: 5; Number of Rows: 1; Orientation: 55°; Pitch: 3.81mm
footprint 691221320005
pins: 1, 2, 3, 4, 5

## 691221320006
designator J?  (value not drawn)
WR-TBL Series 2213 55° Entry Modular, THT, pitch 3.81mm, 6p; Manufacturer: Wurth Elektronik; Modularity: Yes; Rated Current: 10A; Working Voltage: 300V; ComponentLink1Description: Website Link; ComponentLink1URL: https://www.we-online.com/redexpert/article/691221320006?ad; ComponentLink2Description: Datasheet Link; ComponentLink2URL: https://www.we-online.com/redexpert/spec/691221320006?ad; Manufacturer Part Number: 691221320006; Category: Terminal Blocks; Match Code: WR-TBL; Mount: Through Hole; Operating Temperature Max: 105°C; Operating Temperature Min: -40°C; Packaging: Box; Application: Rising Cage Clamp; Number of Pins: 6; Number of Rows: 1; Orientation: 55°; Pitch: 3.81mm
footprint 691221320006
pins: 1, 2, 3, 4, 5, 6

## 691221320008
designator J?  (value not drawn)
WR-TBL Series 2213 55° Entry Modular, THT, pitch 3.81mm, 8p; Manufacturer: Wurth Elektronik; Modularity: Yes; Rated Current: 10A; Working Voltage: 300V; ComponentLink1Description: Website Link; ComponentLink1URL: https://www.we-online.com/redexpert/article/691221320008?ad; ComponentLink2Description: Datasheet Link; ComponentLink2URL: https://www.we-online.com/redexpert/spec/691221320008?ad; Manufacturer Part Number: 691221320008; Category: Terminal Blocks; Match Code: WR-TBL; Mount: Through Hole; Operating Temperature Max: 105°C; Operating Temperature Min: -40°C; Packaging: Box; Application: Rising Cage Clamp; Number of Pins: 8; Number of Rows: 1; Orientation: 55°; Pitch: 3.81mm
footprint 691221320008
pins: 1, 2, 3, 4, 5, 6, 7, 8

## 691230110004
designator J?  (value not drawn)
WR-TBL Series 2301 Double Level Horizontal Entry Modular, THT, pitch 3.5mm, 4p; Manufacturer: Wurth Elektronik; Modularity: Yes; Rated Current: 10A; Working Voltage: 300V; ComponentLink1Description: Website Link; ComponentLink1URL: https://www.we-online.com/redexpert/article/691230110004?ad; ComponentLink2Description: Datasheet Link; ComponentLink2URL: https://www.we-online.com/redexpert/spec/691230110004?ad; Manufacturer Part Number: 691230110004; Category: Terminal Blocks; Match Code: WR-TBL; Mount: Through Hole; Operating Temperature Max: 105°C; Operating Temperature Min: -40°C; Packaging: Box; Application: Rising Cage Clamp; Number of Pins: 4; Number of Rows: 2; Orientation: Double Level Horizontal; Pitch: 3.5mm
footprint 691230110004
pins: 1, 2, 3, 4

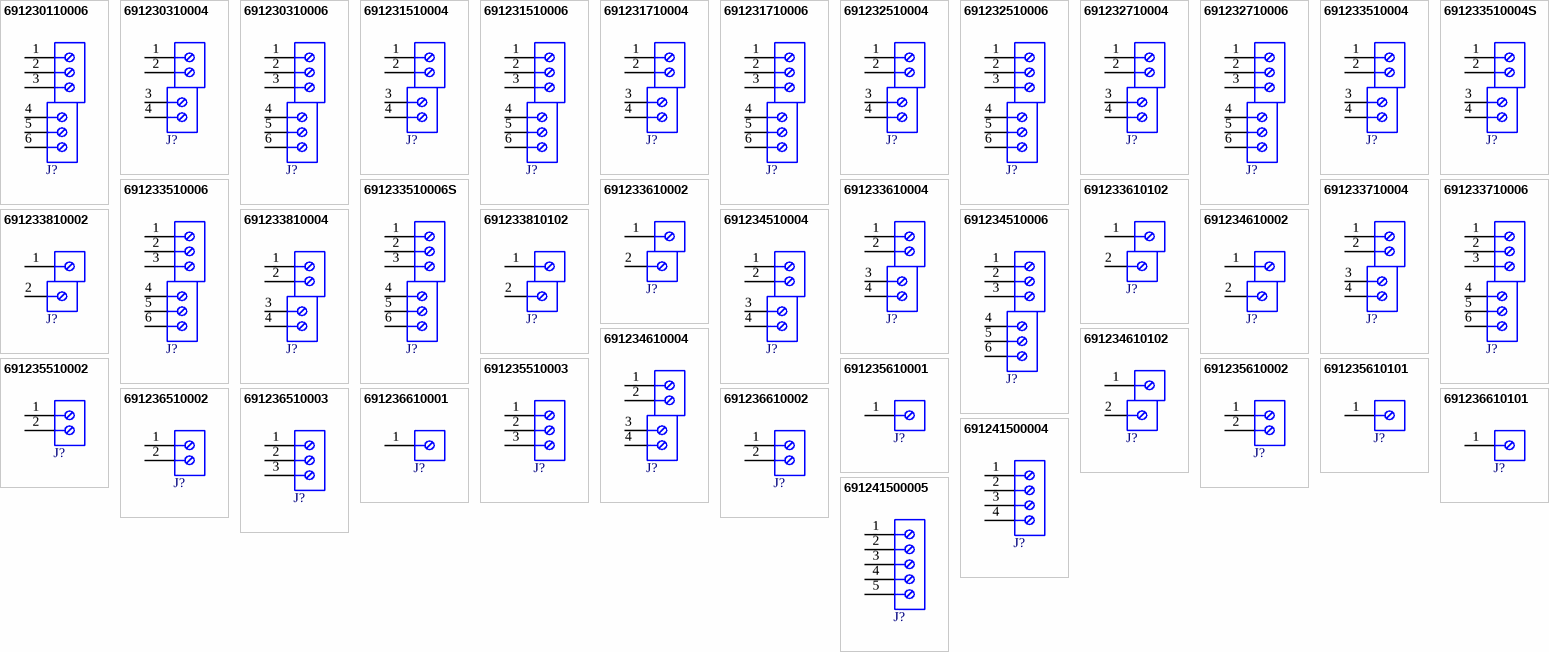
[diagram p6: symbols 691230110006 to 691241500005]

## 691230110006
designator J?  (value not drawn)
WR-TBL Series 2301 Double Level Horizontal Entry Modular, THT, pitch 3.5mm, 6p; Manufacturer: Wurth Elektronik; Modularity: Yes; Rated Current: 10A; Working Voltage: 300V; ComponentLink1Description: Website Link; ComponentLink1URL: https://www.we-online.com/redexpert/article/691230110006?ad; ComponentLink2Description: Datasheet Link; ComponentLink2URL: https://www.we-online.com/redexpert/spec/691230110006?ad; Manufacturer Part Number: 691230110006; Category: Terminal Blocks; Match Code: WR-TBL; Mount: Through Hole; Operating Temperature Max: 105°C; Operating Temperature Min: -40°C; Packaging: Box; Application: Rising Cage Clamp; Number of Pins: 6; Number of Rows: 2; Orientation: Double Level Horizontal; Pitch: 3.5mm
footprint 691230110006
pins: 1, 2, 3, 4, 5, 6

## 691230310004
designator J?  (value not drawn)
WR-TBL Series 2303 Double Level Horizontal Entry Modular, THT, pitch 3.81mm, 4p; Manufacturer: Wurth Elektronik; Modularity: Yes; Rated Current: 10A; Working Voltage: 300V; ComponentLink1Description: Website Link; ComponentLink1URL: https://www.we-online.com/redexpert/article/691230310004?ad; ComponentLink2Description: Datasheet Link; ComponentLink2URL: https://www.we-online.com/redexpert/spec/691230310004?ad; Manufacturer Part Number: 691230310004; Category: Terminal Blocks; Match Code: WR-TBL; Mount: Through Hole; Operating Temperature Max: 105°C; Operating Temperature Min: -40°C; Packaging: Box; Application: Rising Cage Clamp; Number of Pins: 4; Number of Rows: 2; Orientation: Double Level Horizontal; Pitch: 3.81mm
footprint 691230310004
pins: 1, 2, 3, 4

## 691230310006
designator J?  (value not drawn)
WR-TBL Series 2303 Double Level Horizontal Entry Modular, THT, pitch 3.81mm, 6p; Manufacturer: Wurth Elektronik; Modularity: Yes; Rated Current: 10A; Working Voltage: 300V; ComponentLink1Description: Website Link; ComponentLink1URL: https://www.we-online.com/redexpert/article/691230310006?ad; ComponentLink2Description: Datasheet Link; ComponentLink2URL: https://www.we-online.com/redexpert/spec/691230310006?ad; Manufacturer Part Number: 691230310006; Category: Terminal Blocks; Match Code: WR-TBL; Mount: Through Hole; Operating Temperature Max: 105°C; Operating Temperature Min: -40°C; Packaging: Box; Application: Rising Cage Clamp; Number of Pins: 6; Number of Rows: 2; Orientation: Double Level Horizontal; Pitch: 3.81mm
footprint 691230310006
pins: 1, 2, 3, 4, 5, 6

## 691231510004
designator J?  (value not drawn)
WR-TBL Series 2315 Double Level Horizontal Entry Modular, THT, pitch 5.08mm, 4p; Manufacturer: Wurth Elektronik; Modularity: Yes; Rated Current: 10A; Working Voltage: 300V; ComponentLink1Description: Website Link; ComponentLink1URL: https://www.we-online.com/redexpert/article/691231510004?ad; ComponentLink2Description: Datasheet Link; ComponentLink2URL: https://www.we-online.com/redexpert/spec/691231510004?ad; Manufacturer Part Number: 691231510004; Category: Terminal Blocks; Match Code: WR-TBL; Mount: Through Hole; Operating Temperature Max: 105°C; Operating Temperature Min: -40°C; Packaging: Box; Application: Rising Cage Clamp; Number of Pins: 4; Number of Rows: 2; Orientation: Double Level Horizontal; Pitch: 5.08mm
footprint 691231510004
pins: 1, 2, 3, 4

## 691231510006
designator J?  (value not drawn)
WR-TBL Series 2315 Double Level Horizontal Entry Modular, THT, pitch 5.08mm, 6p; Manufacturer: Wurth Elektronik; Modularity: Yes; Rated Current: 10A; Working Voltage: 300V; ComponentLink1Description: Website Link; ComponentLink1URL: https://www.we-online.com/redexpert/article/691231510006?ad; ComponentLink2Description: Datasheet Link; ComponentLink2URL: https://www.we-online.com/redexpert/spec/691231510006?ad; Manufacturer Part Number: 691231510006; Category: Terminal Blocks; Match Code: WR-TBL; Mount: Through Hole; Operating Temperature Max: 105°C; Operating Temperature Min: -40°C; Packaging: Box; Application: Rising Cage Clamp; Number of Pins: 6; Number of Rows: 2; Orientation: Double Level Horizontal; Pitch: 5.08mm
footprint 691231510006
pins: 1, 2, 3, 4, 5, 6

## 691231710004
designator J?  (value not drawn)
WR-TBL Series 2317 Double Level Horizontal Entry Modular, THT, pitch 5mm, 4p; Manufacturer: Wurth Elektronik; Modularity: Yes; Rated Current: 10A; Working Voltage: 300V; ComponentLink1Description: Website Link; ComponentLink1URL: https://www.we-online.com/redexpert/article/691231710004?ad; ComponentLink2Description: Datasheet Link; ComponentLink2URL: https://www.we-online.com/redexpert/spec/691231710004?ad; Manufacturer Part Number: 691231710004; Category: Terminal Blocks; Match Code: WR-TBL; Mount: Through Hole; Operating Temperature Max: 105°C; Operating Temperature Min: -40°C; Packaging: Box; Application: Rising Cage Clamp; Number of Pins: 4; Number of Rows: 2; Orientation: Double Level Horizontal; Pitch: 5mm
footprint 691231710004
pins: 1, 2, 3, 4

## 691231710006
designator J?  (value not drawn)
WR-TBL Series 2317 Double Level Horizontal Entry Modular, THT, pitch 5mm, 6p; Manufacturer: Wurth Elektronik; Modularity: Yes; Rated Current: 10A; Working Voltage: 300V; ComponentLink1Description: Website Link; ComponentLink1URL: https://www.we-online.com/redexpert/article/691231710006?ad; ComponentLink2Description: Datasheet Link; ComponentLink2URL: https://www.we-online.com/redexpert/spec/691231710006?ad; Manufacturer Part Number: 691231710006; Category: Terminal Blocks; Match Code: WR-TBL; Mount: Through Hole; Operating Temperature Max: 105°C; Operating Temperature Min: -40°C; Packaging: Box; Application: Rising Cage Clamp; Number of Pins: 6; Number of Rows: 2; Orientation: Double Level Horizontal; Pitch: 5mm
footprint 691231710006
pins: 1, 2, 3, 4, 5, 6

## 691232510004
designator J?  (value not drawn)
WR-TBL Series 2325 Double Level Horizontal Entry Modular, THT, pitch 5.08mm, 4p; Manufacturer: Wurth Elektronik; Modularity: Yes; Rated Current: 20A; Working Voltage: 300V; ComponentLink1Description: Website Link; ComponentLink1URL: https://www.we-online.com/redexpert/article/691232510004?ad; ComponentLink2Description: Datasheet Link; ComponentLink2URL: https://www.we-online.com/redexpert/spec/691232510004?ad; Manufacturer Part Number: 691232510004; Category: Terminal Blocks; Match Code: WR-TBL; Mount: Through Hole; Operating Temperature Max: 105°C; Operating Temperature Min: -40°C; Packaging: Box; Application: Rising Cage Clamp; Number of Pins: 4; Number of Rows: 2; Orientation: Double Level Horizontal; Pitch: 5.08mm
footprint 691232510004
pins: 1, 2, 3, 4

## 691232510006
designator J?  (value not drawn)
WR-TBL Series 2325 Double Level Horizontal Entry Modular, THT, pitch 5.08mm, 6p; Manufacturer: Wurth Elektronik; Modularity: Yes; Rated Current: 20A; Working Voltage: 300V; ComponentLink1Description: Website Link; ComponentLink1URL: https://www.we-online.com/redexpert/article/691232510006?ad; ComponentLink2Description: Datasheet Link; ComponentLink2URL: https://www.we-online.com/redexpert/spec/691232510006?ad; Manufacturer Part Number: 691232510006; Category: Terminal Blocks; Match Code: WR-TBL; Mount: Through Hole; Operating Temperature Max: 105°C; Operating Temperature Min: -40°C; Packaging: Box; Application: Rising Cage Clamp; Number of Pins: 6; Number of Rows: 2; Orientation: Double Level Horizontal; Pitch: 5.08mm
footprint 691232510006
pins: 1, 2, 3, 4, 5, 6

## 691232710004
designator J?  (value not drawn)
WR-TBL Series 2327 Double Level Horizontal Entry Modular, THT, pitch 5mm, 4p; Manufacturer: Wurth Elektronik; Modularity: Yes; Rated Current: 20A; Working Voltage: 300V; ComponentLink1Description: Website Link; ComponentLink1URL: https://www.we-online.com/redexpert/article/691232710004?ad; ComponentLink2Description: Datasheet Link; ComponentLink2URL: https://www.we-online.com/redexpert/spec/691232710004?ad; Manufacturer Part Number: 691232710004; Category: Terminal Blocks; Match Code: WR-TBL; Mount: Through Hole; Operating Temperature Max: 105°C; Operating Temperature Min: -40°C; Packaging: Box; Application: Rising Cage Clamp; Number of Pins: 4; Number of Rows: 2; Orientation: Double Level Horizontal; Pitch: 5mm
footprint 691232710004
pins: 1, 2, 3, 4

## 691232710006
designator J?  (value not drawn)
WR-TBL Series 2327 Double Level Horizontal Entry Modular, THT, pitch 5mm, 6p; Manufacturer: Wurth Elektronik; Modularity: Yes; Rated Current: 20A; Working Voltage: 300V; ComponentLink1Description: Website Link; ComponentLink1URL: https://www.we-online.com/redexpert/article/691232710006?ad; ComponentLink2Description: Datasheet Link; ComponentLink2URL: https://www.we-online.com/redexpert/spec/691232710006?ad; Manufacturer Part Number: 691232710006; Category: Terminal Blocks; Match Code: WR-TBL; Mount: Through Hole; Operating Temperature Max: 105°C; Operating Temperature Min: -40°C; Packaging: Box; Application: Rising Cage Clamp; Number of Pins: 6; Number of Rows: 2; Orientation: Double Level Horizontal; Pitch: 5mm
footprint 691232710006
pins: 1, 2, 3, 4, 5, 6

## 691233510004
designator J?  (value not drawn)
WR-TBL Series 2335 Double Level Horizontal Entry Modular, THT, pitch 5.08mm, 4p; Manufacturer: Wurth Elektronik; Modularity: Yes; Rated Current: 20A; Working Voltage: 300V; ComponentLink1Description: Website Link; ComponentLink1URL: https://www.we-online.com/redexpert/article/691233510004?ad; ComponentLink2Description: Datasheet Link; ComponentLink2URL: https://www.we-online.com/redexpert/spec/691233510004?ad; Manufacturer Part Number: 691233510004; Category: Terminal Blocks; Match Code: WR-TBL; Mount: Through Hole; Operating Temperature Max: 105°C; Operating Temperature Min: -40°C; Packaging: Box; Application: Rising Cage Clamp; Number of Pins: 4; Number of Rows: 2; Orientation: Double Level Horizontal; Pitch: 5.08mm
footprint 691233510004
pins: 1, 2, 3, 4

## 691233510004S
designator J?  (value not drawn)
WR-TBL Series 2335S Double Level Horizontal Entry Modular, THT, pitch 5.08mm, 4p; Manufacturer: Wurth Elektronik; Modularity: Yes; Rated Current: 20A; Working Voltage: 300V; ComponentLink1Description: Website Link; ComponentLink1URL: https://www.we-online.com/redexpert/article/691233510004S?ad; ComponentLink2Description: Datasheet Link; ComponentLink2URL: https://www.we-online.com/redexpert/spec/691233510004S?ad; Manufacturer Part Number: 691233510004S; Category: Terminal Blocks; Match Code: WR-TBL; Mount: Through Hole; Operating Temperature Max: 120°C; Operating Temperature Min: -30°C; Packaging: Box; Application: Rising Cage Clamp; Number of Pins: 4; Number of Rows: 2; Orientation: Double Level Horizontal; Pitch: 5.08mm
footprint 691233510004S
pins: 1, 2, 3, 4